# Altium footprint library Plus3VLDO.PcbLib: 1 footprints
Each footprint in its own frame and in the unit in brackets; x right, y up, seen from the top. Pads: shape width x height; smd on the part's side, far side on the other; paste and mask are expansions set on the pad; w line width, h text height; cw(c..) or ccw(c..) is an arc to the next point about the centre after c.
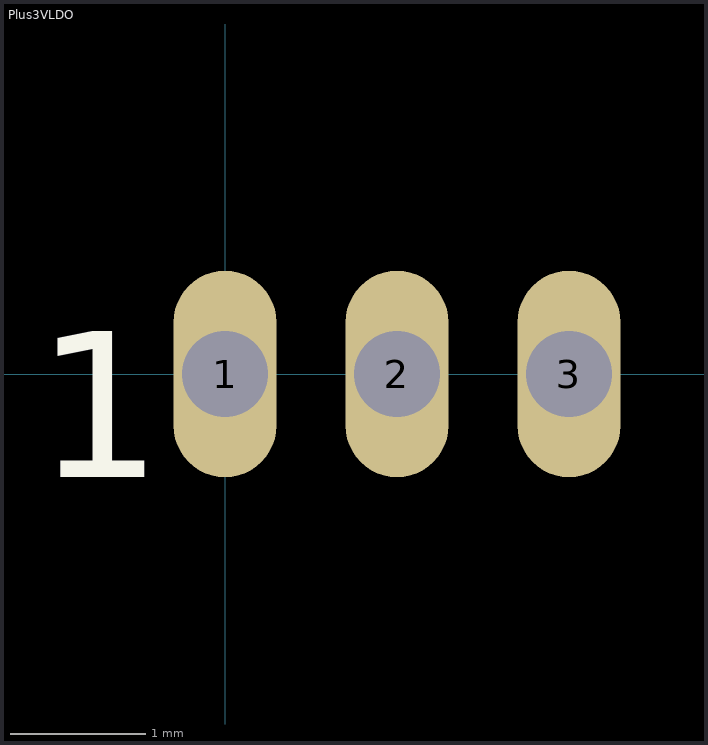
[diagram p0: the footprint, top view; thin cyan lines are the x and y axes]

## Plus3VLDO [mil] "Texas Instruments LP2950"
pads (3):
  oval 30x60 hole 25: 1(0,0) 2(50,0) 3(100,0)
Top Overlay:
  text "1" at -55,-30 h60